# Altium schematic symbol library pulseox-clamp-PCB-SCHLib.SchLib: 6 symbols
Pins are listed as number, name and electrical type; pins without a type are passive.

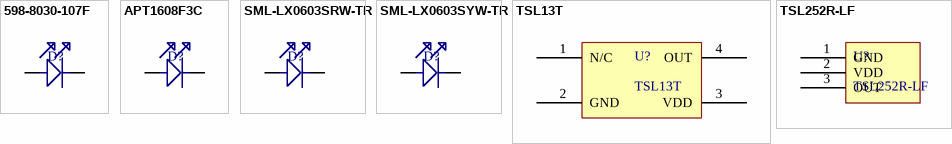
[diagram p0: symbols 598-8030-107F to TSL252R-LF]

## 598-8030-107F
designator D?  (value not drawn)
Standard LEDs - SMD Orange Water Clr 150mcd 610nm; Manufacturer: Dialight; Lens Colour/Style: Water Clear; Wavelength: 600 nm to 610 nm; Lens Shape: Rectangular; Luminous Intensity: 70 mcd to 150 mcd; Viewing Angle: 140 deg; If - Forward Current: 20 mA; Vf - Forward Voltage: 1.7 V; Supplier 1: Mouser; Manufacturer Part Number: 598-8030-107F; RoHS: RoHS Compliant; Category: Standard LEDs - SMD; Stock 1: 11067; Pricing 1: 1=0.357, 10=0.210, 100=0.121, 1000=0.094, 4000=0.081, 8000=0.074, 24000=0.069, 48000=0.063, 100000=0.062 (EUR); Height: 0.7 mm; Illumination Colour: Orange; Length: 1.6 mm; Orientation: Top View; Package/Case: 0603 (1608 metric); Packaging: Reel; Width: 0.8 mm; Brand: Dialight; Mounting Style: SMD/SMT; Colour Temperature: -; Lens Dimensions: 1.1 mm x 0.8 mm; Maximum Operating Temperature: + 85 C; Minimum Operating Temperature: - 30 C; Standard Pack Qty: 4000; Wavelength/Colour Temperature: 600 nm to 610 nm; RoHS - Mouser: Y; Minimum Order Quantity: 1; Reeling: True; ComponentLink1URL: http://www.mouser.com/ds/2/109/SMT_selector_guide-267443.pdf; ComponentLink1Description: http://www.mouser.com/ds/2/109/SMT_selector_guide-267443.pdf; Supplier Part Number 1: 645-598-8030-107F
footprint LED0603
pins: 1, 2

## APT1608F3C
designator D?  (value not drawn)
Infrared Emitters IR 940nm 120 deg Water Clr 1.2 mW/sr; Manufacturer: Kingbright; Power Rating: 80 mW; Beam Angle: 120 deg; Lens Shape: Rectangular; If - Forward Current: 20 mA; Vf - Forward Voltage: 1.2 V; Vr - Reverse Voltage: 5 V; Supplier 1: Mouser; Manufacturer Part Number: APT1608F3C; RoHS: RoHS Compliant; Category: Infrared Emitters; Stock 1: 9952; Pricing 1: 1=0.221, 10=0.137, 100=0.102, 1000=0.083, 2000=0.075, 10000=0.068, 24000=0.061, 50000=0.058, 100000=0.055 (EUR); Height: 0.75 mm; Illumination Colour: Infrared; Length: 1.6 mm; Package/Case: 0603; Packaging: Reel; Wavelength: 940 nm; Width: 0.8 mm; Brand: Kingbright; Mounting Style: SMD/SMT; Viewing Angle: 120 deg; Lens Dimensions: 1.2 mm x 0.8 mm; Maximum Operating Temperature: + 85 C; Minimum Operating Temperature: - 40 C; Radiant Intensity: 1.2 mW/sr; Standard Pack Qty: 2000; RoHS - Mouser: Y; Minimum Order Quantity: 1; Reeling: True; ComponentLink1URL: http://www.mouser.com/ds/2/216/APT1608F3C-80735.pdf; ComponentLink1Description: http://www.mouser.com/ds/2/216/APT1608F3C-80735.pdf; Supplier Part Number 1: 604-APT1608F3C
footprint LED0603
pins: 1, 2

## SML-LX0603SRW-TR
designator D?  (value not drawn)
Standard LEDs - SMD Super Red, 660nm 1.7V, 45mcd; Manufacturer: Lumex; Lens Colour/Style: Milky White Diffused; Lens Shape: Rectangular; Viewing Angle: 140 deg; If - Forward Current: 20 mA; Supplier 1: Mouser; Manufacturer Part Number: SML-LX0603SRW-TR; RoHS: RoHS Compliant; Category: Standard LEDs - SMD; Stock 1: 29046; Pricing 1: 1=0.281, 10=0.171, 100=0.107, 500=0.078, 1000=0.061, 2000=0.060, 4000=0.054, 8000=0.048, 24000=0.043 (EUR); Illumination Colour: Red; Length: 1.6 mm; Package/Case: 0603 (1608 metric); Packaging: Reel; Wavelength: 660 nm; Width: 0.8 mm; Brand: Lumex; Luminous Intensity: 45 mcd; Mounting Style: SMD/SMT; Colour Temperature: -; Maximum Operating Temperature: + 85 C; Minimum Operating Temperature: - 25 C; Standard Pack Qty: 4000; Vf - Forward Voltage: 1.7 V; Wavelength/Colour Temperature: 660 nm; RoHS - Mouser: Y; Minimum Order Quantity: 1; Reeling: True; ComponentLink1URL: http://www.mouser.com/ds/2/244/SML-LX0603SRW-TR-1135914.pdf; ComponentLink1Description: http://www.mouser.com/ds/2/244/SML-LX0603SRW-TR-1135914.pdf; Supplier Part Number 1: 696-SML-LX0603SRW
footprint LED0603
pins: 1, 2

## SML-LX0603SYW-TR
designator D?  (value not drawn)
Standard LEDs - SMD Super Yellow, 590nm 2V, 60mcd; Manufacturer: Lumex; Lens Colour/Style: White Diffused; Power Rating: 50 mW; Lens Shape: Rectangular; Viewing Angle: 140 deg; If - Forward Current: 20 mA; Vr - Reverse Voltage: 5 V; Supplier 1: Mouser; Manufacturer Part Number: SML-LX0603SYW-TR; RoHS: RoHS Compliant; Category: Standard LEDs - SMD; Stock 1: 11431; Pricing 1: 1=0.434, 10=0.283, 100=0.218, 500=0.187, 1000=0.145, 2000=0.119, 4000=0.111, 8000=0.107, 24000=0.105 (EUR); Height: 0.6 mm; Illumination Colour: Yellow; Length: 1.6 mm; Package/Case: 0603 (1608 metric); Packaging: Reel; Wavelength: 590 nm; Width: 0.8 mm; Brand: Lumex; Luminous Intensity: 60 mcd; Mounting Style: SMD/SMT; Peak Wavelength: 590 nm; Colour Temperature: -; Lens Dimensions: 1 mm x 0.8 mm; Maximum Operating Temperature: + 85 C; Minimum Operating Temperature: - 25 C; Standard Pack Qty: 4000; Vf - Forward Voltage: 2 V; Wavelength/Colour Temperature: 590 nm; RoHS - Mouser: Y; Minimum Order Quantity: 1; Reeling: True; ComponentLink1URL: http://www.mouser.com/ds/2/244/SML-LX0603SYW-TR-1136026.pdf; ComponentLink1Description: http://www.mouser.com/ds/2/244/SML-LX0603SYW-TR-1136026.pdf; Supplier Part Number 1: 696-SML-LX0603SYW
footprint LED0603
pins: 1, 2

## TSL13T
designator U?
Light To Frequency & Light To Voltage Light to Voltage Converter; Manufacturer: ams; Peak Wavelength: 640 nm; Operating Supply Voltage: 5 V; Product Status: End of Life; Supplier 1: Mouser; Manufacturer Part Number: TSL13T; RoHS: RoHS Compliant; Category: Light To Frequency & Light To Voltage; Stock 1: 0; Pricing 1: 1=1.21, 10=1.09, 25=0.969, 100=0.876, 250=0.780, 500=0.683, 1000=0.564 (EUR); Package/Case: SMD-4; Packaging: Reel; Product: Light to Voltage Converters; Brand: ams; Maximum Operating Temperature: + 70 C; Minimum Operating Temperature: 0 C; Standard Pack Qty: 1000; RoHS - Mouser: Y; Minimum Order Quantity: 1; Reeling: True; ComponentLink1URL: http://www.mouser.com/ds/2/588/AMS_TSL13T_Datasheet_EN_v1[1]-316312.pdf; ComponentLink1Description: http://www.mouser.com/ds/2/588/AMS_TSL13T_Datasheet_EN_v1[1]-316312.pdf; Supplier Part Number 1: 856-TSL13T
footprint LIGHT_RCV
pins: 1 N/C (oc), 2 GND (oc), 3 VDD (oc), 4 OUT (oc)

## TSL252R-LF
designator U?
AMS   TSL252R-LF   PHOTODIODE, SENSOR, L/VOLTS; Manufacturer: ams TAOS; Min Supply Voltage: 2.7V; Max Supply Voltage: 5.5V; Wavelength: 635nm; Output Current: 10mA; Output Type: Voltage; Lead Length: 14.8mm; Supplier 1: Mouser; Manufacturer Part Number: TSL252R-LF; Stock 1: 1918; Pricing 1: 1=2.83, 10=2.56, 50=1.96, 100=1.83, 1000=1.24, 10000=1.24 (USD); Case/Package: S; Number of Pins: 3; Min Operating Temperature: 0°C; Max Operating Temperature: 70°C; Packaging: Bulk; Package Quantity: 500; REACH SVHC: No SVHC; Lead Free: Lead Free; ComponentLink1URL: https://datasheet.ciiva.com/25650/tsl252r-lf-25650398.pdf; ComponentLink1Description: https://datasheet.ciiva.com/25650/tsl252r-lf-25650398.pdf; ComponentLink2URL: https://datasheet.ciiva.com/45465/tsl251r-datasheet-en-v1-45465110.pdf; ComponentLink2Description: https://datasheet.ciiva.com/45465/tsl251r-datasheet-en-v1-45465110.pdf; ComponentLink3URL: https://datasheet.ciiva.com/1316/301932-1316311.pdf; ComponentLink3Description: https://datasheet.ciiva.com/1316/301932-1316311.pdf; Supplier Part Number 1: 856-TSL252R-LF
footprint LIGHT_RCV1
pins: 1 GND (oc), 2 VDD (oc), 3 OUT (oc)